# Altium footprint library Connector_PinHeader_2.00mm.PcbLib: 278 footprints (part 11 of 18)
Each footprint in its own frame and in the unit in brackets; x right, y up, seen from the top. Pads: shape width x height; smd on the part's side, far side on the other; paste and mask are expansions set on the pad; w line width, h text height; cw(c..) or ccw(c..) is an arc to the next point about the centre after c.
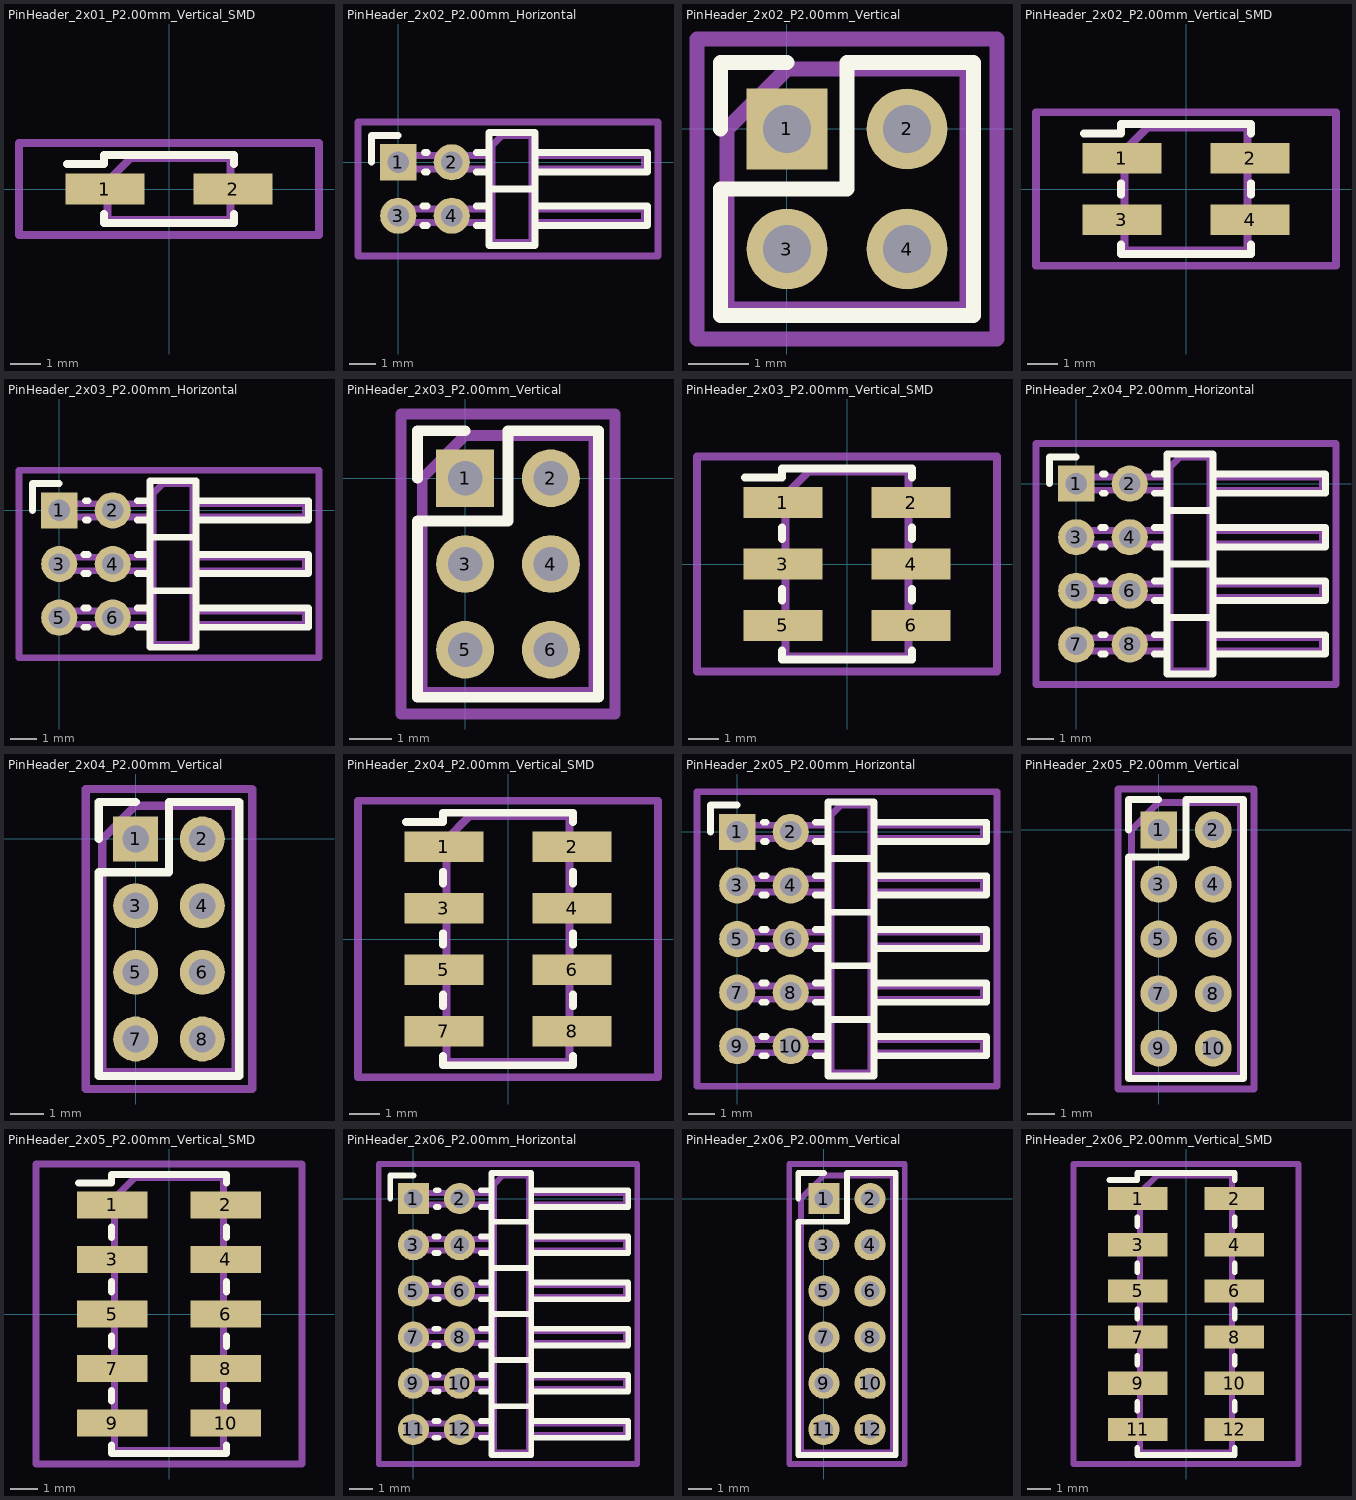
[diagram p10: the footprints below, top view; thin cyan lines are the x and y axes]

## PinHeader_2x01_P2.00mm_Vertical_SMD [mm]
pads (2):
  rect 2.58x1 smd: 1(-2.085,0) 2(2.085,0)
F.SilkS:
  lines w0.254: -3.315,0.81 -2.11,0.81 -2.11,1.11 2.11,1.11 2.11,0.81 ; -2.11,-0.81 -2.11,-1.11 2.11,-1.11 2.11,-0.81
Top Assembly:
  lines w0.254: -2,-0.25 -2.875,-0.25 -2.875,0.25 -2,0.25 ; 2,-0.25 2.875,-0.25 2.875,0.25 2,0.25 ; -2,0.25 -2,-1 2,-1 2,1 -1.25,1 -2,0.25
  text "'.Designator'" at 0.84,-4.047 h1
Top Courtyard:
  lines w0.254: -4.88,-1.5 4.88,-1.5 4.88,1.5 -4.88,1.5 -4.88,-1.5
Top Designator:
  text ".Designator" at -7.618,-0.658 h1.52

## PinHeader_2x02_P2.00mm_Horizontal [mm]
pads (4):
  rect 1.35x1.35 hole 0.8: 1(0,0)
  round 1.35 hole 0.8: 2(2,0) 3(0,-2) 4(2,-2)
F.SilkS:
  lines w0.254: -1,0 -1,1 0,1 ; 0.917,-2.36 1.083,-2.36 ; 0.917,-1.64 1.083,-1.64 ; 0.985,-0.36 1.083,-0.36 ; 0.985,0.36 1.083,0.36 ; 2.917,-2.36 3.39,-2.36 ; 2.917,-1.64 3.39,-1.64 ; 2.917,-0.36 3.39,-0.36 ; 2.917,0.36 3.39,0.36 ; 3.39,-1 5.11,-1 ; 5.11,-2.36 9.31,-2.36 9.31,-1.64 5.11,-1.64 ; 3.39,-3.11 5.11,-3.11 5.11,1.11 3.39,1.11 3.39,-3.11 ; 5.11,-0.36 9.31,-0.36 9.31,0.36 5.11,0.36 5.11,-0.36
Top Assembly:
  lines w0.254: 3.5,-2.25 -0.25,-2.25 -0.25,-1.75 3.5,-1.75 ; 3.5,-0.25 -0.25,-0.25 -0.25,0.25 3.5,0.25 ; 5,-2.25 9.2,-2.25 9.2,-1.75 5,-1.75 ; 5,-0.25 9.2,-0.25 9.2,0.25 5,0.25 ; 3.5,-3 5,-3 5,1 3.875,1 3.5,0.625 3.5,-3
  text "'.Designator'" at 5.006,-4.642 h0.9
Top Courtyard:
  lines w0.254: -1.5,-3.5 9.7,-3.5 9.7,1.5 -1.5,1.5 -1.5,-3.5
Top Designator:
  text ".Designator" at -3.518,-1.643 h1.52

## PinHeader_2x02_P2.00mm_Vertical [mm]
pads (4):
  rect 1.35x1.35 hole 0.8: 1(0,0)
  round 1.35 hole 0.8: 2(2,0) 3(0,-2) 4(2,-2)
F.SilkS:
  lines w0.254: -1.11,0 -1.11,1.11 0,1.11 ; -1.11,-3.11 3.11,-3.11 3.11,1.11 1,1.11 1,-1 -1.11,-1 -1.11,-3.11
Top Assembly:
  lines w0.254: -1,-3 3,-3 3,1 0,1 -1,0 -1,-3
  text "'.Designator'" at 1.84,-5.047 h1
Top Courtyard:
  lines w0.254: -1.5,-3.5 3.5,-3.5 3.5,1.5 -1.5,1.5 -1.5,-3.5
Top Designator:
  text ".Designator" at -6.618,-1.658 h1.52

## PinHeader_2x02_P2.00mm_Vertical_SMD [mm]
pads (4):
  rect 2.58x1 smd: 1(-2.085,1) 2(2.085,1) 3(-2.085,-1) 4(2.085,-1)
F.SilkS:
  lines w0.254: -3.315,1.81 -2.11,1.81 -2.11,2.11 2.11,2.11 2.11,1.81 ; -2.11,-1.81 -2.11,-2.11 2.11,-2.11 2.11,-1.81 ; -2.11,-0.19 -2.11,0.19 ; 2.11,-0.19 2.11,0.19
Top Assembly:
  lines w0.254: -2,-1.25 -2.875,-1.25 -2.875,-0.75 -2,-0.75 ; -2,0.75 -2.875,0.75 -2.875,1.25 -2,1.25 ; 2,-1.25 2.875,-1.25 2.875,-0.75 2,-0.75 ; 2,0.75 2.875,0.75 2.875,1.25 2,1.25 ; -2,1.25 -2,-2 2,-2 2,2 -1.25,2 -2,1.25
  text "'.Designator'" at 0.84,-4.047 h1
Top Courtyard:
  lines w0.254: -4.88,-2.5 4.88,-2.5 4.88,2.5 -4.88,2.5 -4.88,-2.5
Top Designator:
  text ".Designator" at -7.618,-0.658 h1.52

## PinHeader_2x03_P2.00mm_Horizontal [mm]
pads (6):
  rect 1.35x1.35 hole 0.8: 1(0,0)
  round 1.35 hole 0.8: 2(2,0) 3(0,-2) 4(2,-2) 5(0,-4) 6(2,-4)
F.SilkS:
  lines w0.254: -1,0 -1,1 0,1 ; 0.917,-4.36 1.083,-4.36 ; 0.917,-3.64 1.083,-3.64 ; 0.917,-2.36 1.083,-2.36 ; 0.917,-1.64 1.083,-1.64 ; 0.985,-0.36 1.083,-0.36 ; 0.985,0.36 1.083,0.36 ; 2.917,-4.36 3.39,-4.36 ; 2.917,-3.64 3.39,-3.64 ; 2.917,-2.36 3.39,-2.36 ; 2.917,-1.64 3.39,-1.64 ; 2.917,-0.36 3.39,-0.36 ; 2.917,0.36 3.39,0.36 ; 3.39,-3 5.11,-3 ; 3.39,-1 5.11,-1 ; 5.11,-4.36 9.31,-4.36 9.31,-3.64 5.11,-3.64 ; 5.11,-2.36 9.31,-2.36 9.31,-1.64 5.11,-1.64 ; 3.39,-5.11 5.11,-5.11 5.11,1.11 3.39,1.11 3.39,-5.11 ; 5.11,-0.36 9.31,-0.36 9.31,0.36 5.11,0.36 5.11,-0.36
Top Assembly:
  lines w0.254: 3.5,-4.25 -0.25,-4.25 -0.25,-3.75 3.5,-3.75 ; 3.5,-2.25 -0.25,-2.25 -0.25,-1.75 3.5,-1.75 ; 3.5,-0.25 -0.25,-0.25 -0.25,0.25 3.5,0.25 ; 5,-4.25 9.2,-4.25 9.2,-3.75 5,-3.75 ; 5,-2.25 9.2,-2.25 9.2,-1.75 5,-1.75 ; 5,-0.25 9.2,-0.25 9.2,0.25 5,0.25 ; 3.5,-5 5,-5 5,1 3.875,1 3.5,0.625 3.5,-5
  text "'.Designator'" at 5.006,-5.642 h0.9
Top Courtyard:
  lines w0.254: -1.5,-5.5 9.7,-5.5 9.7,1.5 -1.5,1.5 -1.5,-5.5
Top Designator:
  text ".Designator" at -3.518,-2.583 h1.52

## PinHeader_2x03_P2.00mm_Vertical [mm]
pads (6):
  rect 1.35x1.35 hole 0.8: 1(0,0)
  round 1.35 hole 0.8: 2(2,0) 3(0,-2) 4(2,-2) 5(0,-4) 6(2,-4)
F.SilkS:
  lines w0.254: -1.11,0 -1.11,1.11 0,1.11 ; -1.11,-5.11 3.11,-5.11 3.11,1.11 1,1.11 1,-1 -1.11,-1 -1.11,-5.11
Top Assembly:
  lines w0.254: -1,-5 3,-5 3,1 0,1 -1,0 -1,-5
  text "'.Designator'" at 1.84,-6.047 h1
Top Courtyard:
  lines w0.254: -1.5,-5.5 3.5,-5.5 3.5,1.5 -1.5,1.5 -1.5,-5.5
Top Designator:
  text ".Designator" at -6.618,-2.658 h1.52

## PinHeader_2x03_P2.00mm_Vertical_SMD [mm]
pads (6):
  rect 2.58x1 smd: 1(-2.085,2) 2(2.085,2) 3(-2.085,0) 4(2.085,0) 5(-2.085,-2) 6(2.085,-2)
F.SilkS:
  lines w0.254: -3.315,2.81 -2.11,2.81 -2.11,3.11 2.11,3.11 2.11,2.81 ; -2.11,-2.81 -2.11,-3.11 2.11,-3.11 2.11,-2.81 ; -2.11,-1.19 -2.11,-0.81 ; -2.11,0.81 -2.11,1.19 ; 2.11,-1.19 2.11,-0.81 ; 2.11,0.81 2.11,1.19
Top Assembly:
  lines w0.254: -2,-2.25 -2.875,-2.25 -2.875,-1.75 -2,-1.75 ; -2,-0.25 -2.875,-0.25 -2.875,0.25 -2,0.25 ; -2,1.75 -2.875,1.75 -2.875,2.25 -2,2.25 ; 2,-2.25 2.875,-2.25 2.875,-1.75 2,-1.75 ; 2,-0.25 2.875,-0.25 2.875,0.25 2,0.25 ; 2,1.75 2.875,1.75 2.875,2.25 2,2.25 ; -2,2.25 -2,-3 2,-3 2,3 -1.25,3 -2,2.25
  text "'.Designator'" at 0.84,-4.047 h1
Top Courtyard:
  lines w0.254: -4.88,-3.5 4.88,-3.5 4.88,3.5 -4.88,3.5 -4.88,-3.5
Top Designator:
  text ".Designator" at -7.618,-0.658 h1.52

## PinHeader_2x04_P2.00mm_Horizontal [mm]
pads (8):
  rect 1.35x1.35 hole 0.8: 1(0,0)
  round 1.35 hole 0.8: 2(2,0) 3(0,-2) 4(2,-2) 5(0,-4) 6(2,-4) 7(0,-6) 8(2,-6)
F.SilkS:
  lines w0.254: -1,0 -1,1 0,1 ; 0.917,-6.36 1.083,-6.36 ; 0.917,-5.64 1.083,-5.64 ; 0.917,-4.36 1.083,-4.36 ; 0.917,-3.64 1.083,-3.64 ; 0.917,-2.36 1.083,-2.36 ; 0.917,-1.64 1.083,-1.64 ; 0.985,-0.36 1.083,-0.36 ; 0.985,0.36 1.083,0.36 ; 2.917,-6.36 3.39,-6.36 ; 2.917,-5.64 3.39,-5.64 ; 2.917,-4.36 3.39,-4.36 ; 2.917,-3.64 3.39,-3.64 ; 2.917,-2.36 3.39,-2.36 ; 2.917,-1.64 3.39,-1.64 ; 2.917,-0.36 3.39,-0.36 ; 2.917,0.36 3.39,0.36 ; 3.39,-5 5.11,-5 ; 3.39,-3 5.11,-3 ; 3.39,-1 5.11,-1 ; 5.11,-6.36 9.31,-6.36 9.31,-5.64 5.11,-5.64 ; 5.11,-4.36 9.31,-4.36 9.31,-3.64 5.11,-3.64 ; 5.11,-2.36 9.31,-2.36 9.31,-1.64 5.11,-1.64 ; 3.39,-7.11 5.11,-7.11 5.11,1.11 3.39,1.11 3.39,-7.11 ; 5.11,-0.36 9.31,-0.36 9.31,0.36 5.11,0.36 5.11,-0.36
Top Assembly:
  lines w0.254: 3.5,-6.25 -0.25,-6.25 -0.25,-5.75 3.5,-5.75 ; 3.5,-4.25 -0.25,-4.25 -0.25,-3.75 3.5,-3.75 ; 3.5,-2.25 -0.25,-2.25 -0.25,-1.75 3.5,-1.75 ; 3.5,-0.25 -0.25,-0.25 -0.25,0.25 3.5,0.25 ; 5,-6.25 9.2,-6.25 9.2,-5.75 5,-5.75 ; 5,-4.25 9.2,-4.25 9.2,-3.75 5,-3.75 ; 5,-2.25 9.2,-2.25 9.2,-1.75 5,-1.75 ; 5,-0.25 9.2,-0.25 9.2,0.25 5,0.25 ; 3.5,-7 5,-7 5,1 3.875,1 3.5,0.625 3.5,-7
  text "'.Designator'" at 5.006,-6.642 h0.9
Top Courtyard:
  lines w0.254: -1.5,-7.5 9.7,-7.5 9.7,1.5 -1.5,1.5 -1.5,-7.5
Top Designator:
  text ".Designator" at -3.518,-3.508 h1.52

## PinHeader_2x04_P2.00mm_Vertical [mm]
pads (8):
  rect 1.35x1.35 hole 0.8: 1(0,0)
  round 1.35 hole 0.8: 2(2,0) 3(0,-2) 4(2,-2) 5(0,-4) 6(2,-4) 7(0,-6) 8(2,-6)
F.SilkS:
  lines w0.254: -1.11,0 -1.11,1.11 0,1.11 ; -1.11,-7.11 3.11,-7.11 3.11,1.11 1,1.11 1,-1 -1.11,-1 -1.11,-7.11
Top Assembly:
  lines w0.254: -1,-7 3,-7 3,1 0,1 -1,0 -1,-7
  text "'.Designator'" at 1.84,-7.047 h1
Top Courtyard:
  lines w0.254: -1.5,-7.5 3.5,-7.5 3.5,1.5 -1.5,1.5 -1.5,-7.5
Top Designator:
  text ".Designator" at -6.618,-3.508 h1.52

## PinHeader_2x04_P2.00mm_Vertical_SMD [mm]
pads (8):
  rect 2.58x1 smd: 1(-2.085,3) 2(2.085,3) 3(-2.085,1) 4(2.085,1) 5(-2.085,-1) 6(2.085,-1) 7(-2.085,-3) 8(2.085,-3)
F.SilkS:
  lines w0.254: -3.315,3.81 -2.11,3.81 -2.11,4.11 2.11,4.11 2.11,3.81 ; -2.11,-3.81 -2.11,-4.11 2.11,-4.11 2.11,-3.81 ; -2.11,-2.19 -2.11,-1.81 ; -2.11,-0.19 -2.11,0.19 ; -2.11,1.81 -2.11,2.19 ; 2.11,-2.19 2.11,-1.81 ; 2.11,-0.19 2.11,0.19 ; 2.11,1.81 2.11,2.19
Top Assembly:
  lines w0.254: -2,-3.25 -2.875,-3.25 -2.875,-2.75 -2,-2.75 ; -2,-1.25 -2.875,-1.25 -2.875,-0.75 -2,-0.75 ; -2,0.75 -2.875,0.75 -2.875,1.25 -2,1.25 ; -2,2.75 -2.875,2.75 -2.875,3.25 -2,3.25 ; 2,-3.25 2.875,-3.25 2.875,-2.75 2,-2.75 ; 2,-1.25 2.875,-1.25 2.875,-0.75 2,-0.75 ; 2,0.75 2.875,0.75 2.875,1.25 2,1.25 ; 2,2.75 2.875,2.75 2.875,3.25 2,3.25 ; -2,3.25 -2,-4 2,-4 2,4 -1.25,4 -2,3.25
  text "'.Designator'" at 0.84,-4.047 h1
Top Courtyard:
  lines w0.254: -4.88,-4.5 4.88,-4.5 4.88,4.5 -4.88,4.5 -4.88,-4.5
Top Designator:
  text ".Designator" at -7.618,-0.508 h1.52

## PinHeader_2x05_P2.00mm_Horizontal [mm]
pads (10):
  rect 1.35x1.35 hole 0.8: 1(0,0)
  round 1.35 hole 0.8: 2(2,0) 3(0,-2) 4(2,-2) 5(0,-4) 6(2,-4) 7(0,-6) 8(2,-6) 9(0,-8) 10(2,-8)
F.SilkS:
  lines w0.254: -1,0 -1,1 0,1 ; 0.917,-8.36 1.083,-8.36 ; 0.917,-7.64 1.083,-7.64 ; 0.917,-6.36 1.083,-6.36 ; 0.917,-5.64 1.083,-5.64 ; 0.917,-4.36 1.083,-4.36 ; 0.917,-3.64 1.083,-3.64 ; 0.917,-2.36 1.083,-2.36 ; 0.917,-1.64 1.083,-1.64 ; 0.985,-0.36 1.083,-0.36 ; 0.985,0.36 1.083,0.36 ; 2.917,-8.36 3.39,-8.36 ; 2.917,-7.64 3.39,-7.64 ; 2.917,-6.36 3.39,-6.36 ; 2.917,-5.64 3.39,-5.64 ; 2.917,-4.36 3.39,-4.36 ; 2.917,-3.64 3.39,-3.64 ; 2.917,-2.36 3.39,-2.36 ; 2.917,-1.64 3.39,-1.64 ; 2.917,-0.36 3.39,-0.36 ; 2.917,0.36 3.39,0.36 ; 3.39,-7 5.11,-7 ; 3.39,-5 5.11,-5 ; 3.39,-3 5.11,-3 ; 3.39,-1 5.11,-1 ; 5.11,-8.36 9.31,-8.36 9.31,-7.64 5.11,-7.64 ; 5.11,-6.36 9.31,-6.36 9.31,-5.64 5.11,-5.64 ; 5.11,-4.36 9.31,-4.36 9.31,-3.64 5.11,-3.64 ; 5.11,-2.36 9.31,-2.36 9.31,-1.64 5.11,-1.64 ; 3.39,-9.11 5.11,-9.11 5.11,1.11 3.39,1.11 3.39,-9.11 ; 5.11,-0.36 9.31,-0.36 9.31,0.36 5.11,0.36 5.11,-0.36
Top Assembly:
  lines w0.254: 3.5,-8.25 -0.25,-8.25 -0.25,-7.75 3.5,-7.75 ; 3.5,-6.25 -0.25,-6.25 -0.25,-5.75 3.5,-5.75 ; 3.5,-4.25 -0.25,-4.25 -0.25,-3.75 3.5,-3.75 ; 3.5,-2.25 -0.25,-2.25 -0.25,-1.75 3.5,-1.75 ; 3.5,-0.25 -0.25,-0.25 -0.25,0.25 3.5,0.25 ; 5,-8.25 9.2,-8.25 9.2,-7.75 5,-7.75 ; 5,-6.25 9.2,-6.25 9.2,-5.75 5,-5.75 ; 5,-4.25 9.2,-4.25 9.2,-3.75 5,-3.75 ; 5,-2.25 9.2,-2.25 9.2,-1.75 5,-1.75 ; 5,-0.25 9.2,-0.25 9.2,0.25 5,0.25 ; 3.5,-9 5,-9 5,1 3.875,1 3.5,0.625 3.5,-9
  text "'.Designator'" at 5.006,-7.642 h0.9
Top Courtyard:
  lines w0.254: -1.5,-9.5 9.7,-9.5 9.7,1.5 -1.5,1.5 -1.5,-9.5
Top Designator:
  text ".Designator" at -3.518,-4.508 h1.52

## PinHeader_2x05_P2.00mm_Vertical [mm]
pads (10):
  rect 1.35x1.35 hole 0.8: 1(0,0)
  round 1.35 hole 0.8: 2(2,0) 3(0,-2) 4(2,-2) 5(0,-4) 6(2,-4) 7(0,-6) 8(2,-6) 9(0,-8) 10(2,-8)
F.SilkS:
  lines w0.254: -1.11,0 -1.11,1.11 0,1.11 ; -1.11,-9.11 3.11,-9.11 3.11,1.11 1,1.11 1,-1 -1.11,-1 -1.11,-9.11
Top Assembly:
  lines w0.254: -1,-9 3,-9 3,1 0,1 -1,0 -1,-9
  text "'.Designator'" at 1.84,-8.047 h1
Top Courtyard:
  lines w0.254: -1.5,-9.5 3.5,-9.5 3.5,1.5 -1.5,1.5 -1.5,-9.5
Top Designator:
  text ".Designator" at -6.618,-4.508 h1.52

## PinHeader_2x05_P2.00mm_Vertical_SMD [mm]
pads (10):
  rect 2.58x1 smd: 1(-2.085,4) 2(2.085,4) 3(-2.085,2) 4(2.085,2) 5(-2.085,0) 6(2.085,0) 7(-2.085,-2) 8(2.085,-2) 9(-2.085,-4) 10(2.085,-4)
F.SilkS:
  lines w0.254: -3.315,4.81 -2.11,4.81 -2.11,5.11 2.11,5.11 2.11,4.81 ; -2.11,-4.81 -2.11,-5.11 2.11,-5.11 2.11,-4.81 ; -2.11,-3.19 -2.11,-2.81 ; -2.11,-1.19 -2.11,-0.81 ; -2.11,0.81 -2.11,1.19 ; -2.11,2.81 -2.11,3.19 ; 2.11,-3.19 2.11,-2.81 ; 2.11,-1.19 2.11,-0.81 ; 2.11,0.81 2.11,1.19 ; 2.11,2.81 2.11,3.19
Top Assembly:
  lines w0.254: -2,-4.25 -2.875,-4.25 -2.875,-3.75 -2,-3.75 ; -2,-2.25 -2.875,-2.25 -2.875,-1.75 -2,-1.75 ; -2,-0.25 -2.875,-0.25 -2.875,0.25 -2,0.25 ; -2,1.75 -2.875,1.75 -2.875,2.25 -2,2.25 ; -2,3.75 -2.875,3.75 -2.875,4.25 -2,4.25 ; 2,-4.25 2.875,-4.25 2.875,-3.75 2,-3.75 ; 2,-2.25 2.875,-2.25 2.875,-1.75 2,-1.75 ; 2,-0.25 2.875,-0.25 2.875,0.25 2,0.25 ; 2,1.75 2.875,1.75 2.875,2.25 2,2.25 ; 2,3.75 2.875,3.75 2.875,4.25 2,4.25 ; -2,4.25 -2,-5 2,-5 2,5 -1.25,5 -2,4.25
  text "'.Designator'" at 0.84,-4.047 h1
Top Courtyard:
  lines w0.254: -4.88,-5.5 4.88,-5.5 4.88,5.5 -4.88,5.5 -4.88,-5.5
Top Designator:
  text ".Designator" at -7.618,-0.508 h1.52

## PinHeader_2x06_P2.00mm_Horizontal [mm]
pads (12):
  rect 1.35x1.35 hole 0.8: 1(0,0)
  round 1.35 hole 0.8: 2(2,0) 3(0,-2) 4(2,-2) 5(0,-4) 6(2,-4) 7(0,-6) 8(2,-6) 9(0,-8) 10(2,-8) 11(0,-10) 12(2,-10)
F.SilkS:
  lines w0.254: -1,0 -1,1 0,1 ; 0.917,-10.36 1.083,-10.36 ; 0.917,-9.64 1.083,-9.64 ; 0.917,-8.36 1.083,-8.36 ; 0.917,-7.64 1.083,-7.64 ; 0.917,-6.36 1.083,-6.36 ; 0.917,-5.64 1.083,-5.64 ; 0.917,-4.36 1.083,-4.36 ; 0.917,-3.64 1.083,-3.64 ; 0.917,-2.36 1.083,-2.36 ; 0.917,-1.64 1.083,-1.64 ; 0.985,-0.36 1.083,-0.36 ; 0.985,0.36 1.083,0.36 ; 2.917,-10.36 3.39,-10.36 ; 2.917,-9.64 3.39,-9.64 ; 2.917,-8.36 3.39,-8.36 ; 2.917,-7.64 3.39,-7.64 ; 2.917,-6.36 3.39,-6.36 ; 2.917,-5.64 3.39,-5.64 ; 2.917,-4.36 3.39,-4.36 ; 2.917,-3.64 3.39,-3.64 ; 2.917,-2.36 3.39,-2.36 ; 2.917,-1.64 3.39,-1.64 ; 2.917,-0.36 3.39,-0.36 ; 2.917,0.36 3.39,0.36 ; 3.39,-9 5.11,-9 ; 3.39,-7 5.11,-7 ; 3.39,-5 5.11,-5 ; 3.39,-3 5.11,-3 ; 3.39,-1 5.11,-1 ; 5.11,-10.36 9.31,-10.36 9.31,-9.64 5.11,-9.64 ; 5.11,-8.36 9.31,-8.36 9.31,-7.64 5.11,-7.64 ; 5.11,-6.36 9.31,-6.36 9.31,-5.64 5.11,-5.64 ; 5.11,-4.36 9.31,-4.36 9.31,-3.64 5.11,-3.64 ; 5.11,-2.36 9.31,-2.36 9.31,-1.64 5.11,-1.64 ; 3.39,-11.11 5.11,-11.11 5.11,1.11 3.39,1.11 3.39,-11.11 ; 5.11,-0.36 9.31,-0.36 9.31,0.36 5.11,0.36 5.11,-0.36
Top Assembly:
  lines w0.254: 3.5,-10.25 -0.25,-10.25 -0.25,-9.75 3.5,-9.75 ; 3.5,-8.25 -0.25,-8.25 -0.25,-7.75 3.5,-7.75 ; 3.5,-6.25 -0.25,-6.25 -0.25,-5.75 3.5,-5.75 ; 3.5,-4.25 -0.25,-4.25 -0.25,-3.75 3.5,-3.75 ; 3.5,-2.25 -0.25,-2.25 -0.25,-1.75 3.5,-1.75 ; 3.5,-0.25 -0.25,-0.25 -0.25,0.25 3.5,0.25 ; 5,-10.25 9.2,-10.25 9.2,-9.75 5,-9.75 ; 5,-8.25 9.2,-8.25 9.2,-7.75 5,-7.75 ; 5,-6.25 9.2,-6.25 9.2,-5.75 5,-5.75 ; 5,-4.25 9.2,-4.25 9.2,-3.75 5,-3.75 ; 5,-2.25 9.2,-2.25 9.2,-1.75 5,-1.75 ; 5,-0.25 9.2,-0.25 9.2,0.25 5,0.25 ; 3.5,-11 5,-11 5,1 3.875,1 3.5,0.625 3.5,-11
  text "'.Designator'" at 5.006,-8.642 h0.9
Top Courtyard:
  lines w0.254: -1.5,-11.5 9.7,-11.5 9.7,1.5 -1.5,1.5 -1.5,-11.5
Top Designator:
  text ".Designator" at -3.518,-5.508 h1.52

## PinHeader_2x06_P2.00mm_Vertical [mm]
pads (12):
  rect 1.35x1.35 hole 0.8: 1(0,0)
  round 1.35 hole 0.8: 2(2,0) 3(0,-2) 4(2,-2) 5(0,-4) 6(2,-4) 7(0,-6) 8(2,-6) 9(0,-8) 10(2,-8) 11(0,-10) 12(2,-10)
F.SilkS:
  lines w0.254: -1.11,0 -1.11,1.11 0,1.11 ; -1.11,-11.11 3.11,-11.11 3.11,1.11 1,1.11 1,-1 -1.11,-1 -1.11,-11.11
Top Assembly:
  lines w0.254: -1,-11 3,-11 3,1 0,1 -1,0 -1,-11
  text "'.Designator'" at 1.84,-9.047 h1
Top Courtyard:
  lines w0.254: -1.5,-11.5 3.5,-11.5 3.5,1.5 -1.5,1.5 -1.5,-11.5
Top Designator:
  text ".Designator" at -6.618,-5.508 h1.52

## PinHeader_2x06_P2.00mm_Vertical_SMD [mm]
pads (12):
  rect 2.58x1 smd: 1(-2.085,5) 2(2.085,5) 3(-2.085,3) 4(2.085,3) 5(-2.085,1) 6(2.085,1) 7(-2.085,-1) 8(2.085,-1) 9(-2.085,-3) 10(2.085,-3) 11(-2.085,-5) 12(2.085,-5)
F.SilkS:
  lines w0.254: -3.315,5.81 -2.11,5.81 -2.11,6.11 2.11,6.11 2.11,5.81 ; -2.11,-5.81 -2.11,-6.11 2.11,-6.11 2.11,-5.81 ; -2.11,-4.19 -2.11,-3.81 ; -2.11,-2.19 -2.11,-1.81 ; -2.11,-0.19 -2.11,0.19 ; -2.11,1.81 -2.11,2.19 ; -2.11,3.81 -2.11,4.19 ; 2.11,-4.19 2.11,-3.81 ; 2.11,-2.19 2.11,-1.81 ; 2.11,-0.19 2.11,0.19 ; 2.11,1.81 2.11,2.19 ; 2.11,3.81 2.11,4.19
Top Assembly:
  lines w0.254: -2,-5.25 -2.875,-5.25 -2.875,-4.75 -2,-4.75 ; -2,-3.25 -2.875,-3.25 -2.875,-2.75 -2,-2.75 ; -2,-1.25 -2.875,-1.25 -2.875,-0.75 -2,-0.75 ; -2,0.75 -2.875,0.75 -2.875,1.25 -2,1.25 ; -2,2.75 -2.875,2.75 -2.875,3.25 -2,3.25 ; -2,4.75 -2.875,4.75 -2.875,5.25 -2,5.25 ; 2,-5.25 2.875,-5.25 2.875,-4.75 2,-4.75 ; 2,-3.25 2.875,-3.25 2.875,-2.75 2,-2.75 ; 2,-1.25 2.875,-1.25 2.875,-0.75 2,-0.75 ; 2,0.75 2.875,0.75 2.875,1.25 2,1.25 ; 2,2.75 2.875,2.75 2.875,3.25 2,3.25 ; 2,4.75 2.875,4.75 2.875,5.25 2,5.25 ; -2,5.25 -2,-6 2,-6 2,6 -1.25,6 -2,5.25
  text "'.Designator'" at 0.84,-4.047 h1
Top Courtyard:
  lines w0.254: -4.88,-6.5 4.88,-6.5 4.88,6.5 -4.88,6.5 -4.88,-6.5
Top Designator:
  text ".Designator" at -7.618,-0.508 h1.52